# Altium schematic symbol library TVS Diode 3V3.SchLib: 1 symbol
Pins are listed as number, name and electrical type; pins without a type are passive.

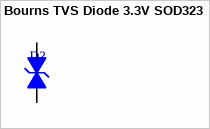
[diagram p0: symbol Bourns TVS Diode 3.3V SOD323]

## Bourns TVS Diode 3.3V SOD323
designator D?  (value not drawn)
TVS DIODE 3.3VWM 10.9VC SOD323; Supplier 1: Digi-Key; Supplier Part Number 1: CDSOD323-T03SCCT-ND
footprint TVS Diode SOD-323
pins: 1, 2